# Altium footprint library Connectors-Battery.PcbLib: 4 footprints
Each footprint in its own frame and in the unit in brackets; x right, y up, seen from the top. Pads: shape width x height; smd on the part's side, far side on the other; paste and mask are expansions set on the pad; w line width, h text height; cw(c..) or ccw(c..) is an arc to the next point about the centre after c.
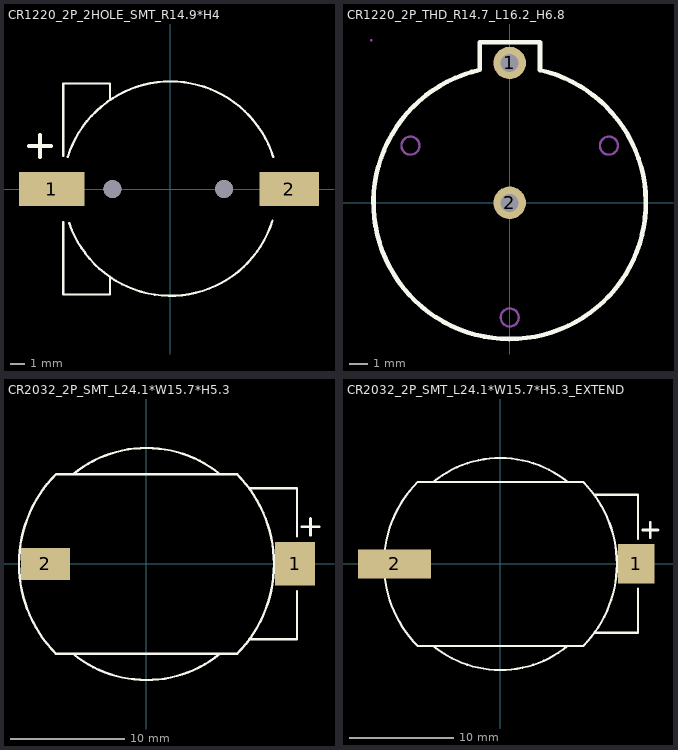
[diagram p0: the footprints below, top view; thin cyan lines are the x and y axes]

## CR1220_2P_2HOLE_SMT_R14.9*H4 [mm]
pads (4):
  rect 4.4x2.3 smd paste+0 mask+0.05: 1(-8,0)
  rect 4x2.3 smd paste+0 mask+0.05: 2(8,0)
  round 1.2 hole 1.2: ""(-3.912,0) ""(3.607,0)
Top Overlay:
  lines w0.15: -7.22,-2.231 -7.22,-7.112 -4.064,-7.112 -4.064,-5.996 ; -7.22,2.231 -7.22,7.112 -4.064,7.112 -4.064,6.069 ; -6.911,2.175 cw(c0,0) 6.918,2.154 ; -6.815,-2.297 ccw(c0,0) 6.871,-2.124
  lines w0.25: -9.525,2.895 -8.052,2.895 ; -8.788,2.159 -8.788,3.632

## CR1220_2P_THD_R14.7_L16.2_H6.8 [mm]
pads (2):
  round 1.8 hole 1: 1(0,7.75) 2(0,0)
Top Overlay:
  lines w0.254: 1.651,8.89 -1.651,8.89 -1.651,7.366 ccw(c0,0) 1.679,7.36 1.679,8.89
Mechanical 15:
  circle w0.127: c0,-6.356 r0.5
  circle w0.127: c5.5,3.17 r0.5
  circle w0.127: c-5.5,3.17 r0.5
  region: -7.616,9.017 -7.616,9.042 -7.651,9.077 -7.701,9.077 -7.736,9.042 -7.736,9.017 -7.736,8.992 -7.701,8.957 -7.651,8.957 -7.616,8.992 -7.616,9.017
  region: 0.4,0 0.4,0.08 0.339,0.227 0.227,0.339 0.08,0.4 -0.08,0.4 -0.227,0.339 -0.339,0.227 -0.4,0.08 -0.4,0 -0.4,-0.08 -0.339,-0.227 -0.227,-0.339 -0.08,-0.4 0.08,-0.4 0.227,-0.339 0.339,-0.227 0.4,-0.08 0.4,0
  region: 0.4,7.75 0.4,7.83 0.339,7.977 0.227,8.089 0.08,8.15 -0.08,8.15 -0.227,8.089 -0.339,7.977 -0.4,7.83 -0.4,7.75 -0.4,7.671 -0.339,7.524 -0.227,7.411 -0.08,7.35 0.08,7.35 0.227,7.411 0.339,7.524 0.4,7.671 0.4,7.75

## CR2032_2P_SMT_L24.1*W15.7*H5.3 [mm]
pads (2):
  rect 3.5x3.8 smd paste+0 mask+0.05: 1(13.005,0.025)
  rect 4.3x2.8 smd paste+0 mask+0.05: 2(-8.839,0)
Top Overlay:
  lines w0.203: -7.925,-7.85 7.925,-7.849 ; -7.919,-7.85 cw(c0,0) -7.909,7.859 ; -7.899,7.849 7.925,7.849 ; -6.435,-7.849 ccw(c0,0) 6.417,-7.864 ; -6.417,7.864 cw(c0,0) 6.436,7.849 ; 7.909,-7.859 ccw(c0,0) 7.919,7.849 ; 8.992,-6.579 13.157,-6.579 13.157,-2.362 ; 8.992,6.629 13.157,6.629 13.157,2.413
  lines w0.25: 13.614,3.252 15.088,3.252 ; 14.351,2.515 14.351,3.988
3D body "s8421-45r.stp": height 5.42, standoff 0.02, extent -11.366,-7.798 13.284,7.797

## CR2032_2P_SMT_L24.1*W15.7*H5.3_EXTEND [mm]
pads (2):
  rect 3.5x3.8 smd paste+0 mask+0.05: 1(13.005,0.026)
  rect 7x2.8 smd paste+0 mask+0.05: 2(-10.135,0)
Top Overlay:
  lines w0.203: -7.925,-7.849 7.925,-7.848 ; -7.919,-7.849 cw(c0,0) -7.909,7.859 ; -7.899,7.849 7.925,7.849 ; -6.435,-7.849 ccw(c0,0) 6.417,-7.864 ; -6.417,7.864 cw(c0,0) 6.435,7.849 ; 7.909,-7.859 ccw(c0,0) 7.919,7.849 ; 8.992,-6.578 13.157,-6.578 13.157,-2.362 ; 8.992,6.63 13.157,6.63 13.157,2.413
  lines w0.25: 13.614,3.252 15.088,3.252 ; 14.351,2.515 14.351,3.989
3D body "s8421-45r.stp": height 5.4, standoff 0, extent -11.366,-7.797 13.284,7.798